# Altium footprint library HZ ChMic4501_1013.PcbLib: 52 footprints (part 3 of 4)
Each footprint in its own frame and in the unit in brackets; x right, y up, seen from the top. Pads: shape width x height; smd on the part's side, far side on the other; paste and mask are expansions set on the pad; w line width, h text height; cw(c..) or ccw(c..) is an arc to the next point about the centre after c.
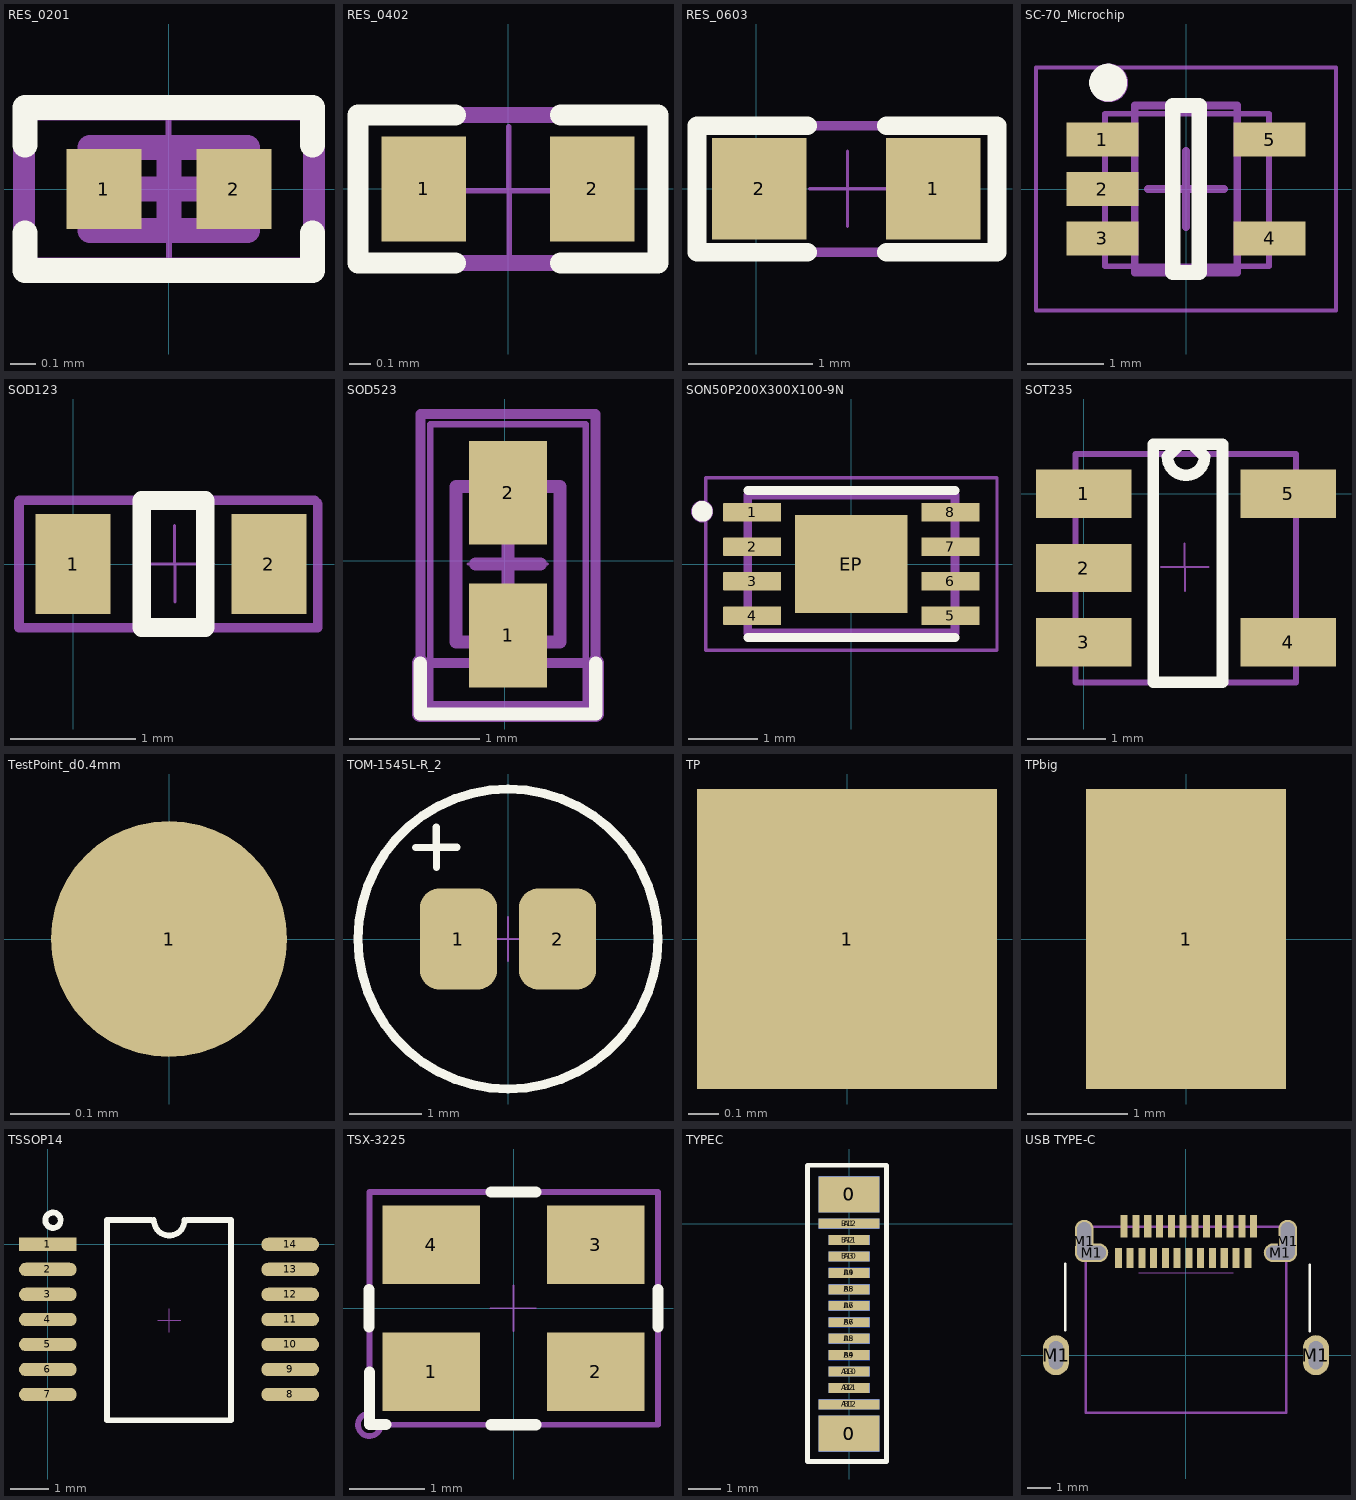
[diagram p2: the footprints below, top view; thin cyan lines are the x and y axes]

## RES_0201 [mm] "Chip Resistor, 2-Leads, Body 0.60x0.30mm, IPC High Density"
height 0.33
pads (2):
  rect 0.3x0.32 smd: 1(-0.26,0) 2(0.26,0)
Top Overlay:
  lines w0.1: -0.575,-0.175 -0.575,-0.325 0.575,-0.325 0.575,-0.175 ; -0.575,0.175 -0.575,0.325 0.575,0.325 0.575,0.175
Mechanical 7:
  lines w0.025: -0.307,0 -0.002,0 ; -0.002,0.305 -0.002,0 ; 0,-0.303 0,0.002 ; 0.303,0 -0.002,0
Mechanical 13:
  lines w0.1: -0.315,-0.165 0.315,-0.165 0.315,0.165 -0.315,0.165 -0.315,-0.165
Mechanical 15:
  lines w0.05: -0.6,-0.3 0.6,-0.3 0.6,0.3 -0.6,0.3 -0.6,-0.3
  lines w0.1: -0.165,0 0.165,0 ; 0,-0.165 0,0.165
Top Mechanical 20/Mechanical 21 (Mech20):
  lines w0.076: -0.575,-0.325 -0.575,0.325 0.575,0.325 0.575,-0.325 -0.575,-0.325
3D body "CAP 0201.STEP": height 0.3, standoff 0, extent -0.3,-0.15 0.3,0.15

## RES_0402 [mm]
pads (2):
  rect 0.4x0.5 smd: 1(-0.4,0) 2(0.4,0)
Top Overlay:
  lines w0.1: -0.25,-0.35 -0.711,-0.35 -0.711,0.35 -0.25,0.35 ; 0.25,-0.35 0.711,-0.35 0.711,0.35 0.25,0.35
Mechanical 7:
  lines w0.025: -0.302,-0.009 0.003,-0.009 ; 0.003,0.296 0.003,-0.009 ; 0.005,-0.312 0.005,-0.007 ; 0.308,-0.009 0.003,-0.009
Top Mechanical 20/Mechanical 21 (Mech20):
  lines w0.076: -0.711,-0.35 -0.711,0.35 0.711,0.35 0.711,-0.35 -0.711,-0.35
3D body "82307050029.stp": height 0.52, standoff 0.02, extent -0.495,-0.259 0.505,0.241

## RES_0603 [mil]
pads (2):
  rect 30x32 smd: 1(56.1,0) 2(0.98,0)
Top Overlay:
  lines w5.91: 16.29,-20.08 -18.71,-20.08 -18.71,19.92 16.29,19.92 ; 41.29,-20.08 76.29,-20.08 76.29,19.92 41.29,19.92
Mechanical 7:
  lines w1: 16.91,0 28.91,0 ; 28.91,12 28.91,0 ; 29,-11.93 29,0.07 ; 40.91,0 28.91,0
Top Mechanical 20/Mechanical 21 (Mech20):
  lines w1: -18.71,19.92 -18.71,19.92 ; 76.29,19.92 76.29,19.92
  lines w3: -18.71,-20.08 16.29,-20.08 41.29,-20.08 76.29,-20.08 76.29,19.92 41.29,19.92 16.29,19.92 -18.71,19.92 -18.71,-20.08
3D body "Ceramic_Capacitor_0603_h32mil.step": height 31.89, standoff 0.39, extent -2.49,-15.62 60.5,15.88

## SC-70_Microchip [mm] "SOT23, 5-Leads, Body 2.2x1.35mm, Pitch 0.65mm, IPC Low Density"
height 1.1
pads (5):
  rect 0.95x0.45 smd: 1(-1.1,0.65) 2(-1.1,0) 3(-1.1,-0.65) 4(1.1,-0.65) 5(1.1,0.65)
Top Overlay:
  circle w0.25: c-1.025,1.4 r0.125
  lines w0.2: -0.175,-1.1 -0.175,1.1 0.175,1.1 0.175,-1.1 -0.175,-1.1
Mechanical 13:
  lines w0.1: -0.675,-1.1 0.675,-1.1 0.675,1.1 -0.675,1.1 -0.675,-1.1
Mechanical 15:
  lines w0.05: -1.975,-1.6 1.975,-1.6 1.975,1.6 -1.975,1.6 -1.975,-1.6
  lines w0.1: -0.5,0 0.5,0 ; 0,-0.5 0,0.5
Top Mechanical 20/Mechanical 21 (Mech20):
  circle w0.254: c-1.016,1.397 r0.127
  lines w0.076: -1.067,-1.016 -1.067,0.991 1.092,0.991 1.092,-1.016 -1.067,-1.016
3D body "SC70-5.step": height 1.15, standoff -0.05, extent -1.072,-1 1.083,1

## SOD123 [mm]
height 1.542
pads (2):
  rect 0.6x0.8 smd: 1(0,0) 2(1.564,0)
Top Overlay:
  lines w0.15: 1.056,0 1.056,0.508 ; 1.056,0.508 0.548,0.508 0.548,-0.508 1.056,-0.508 1.056,-0.133 1.056,0.508
Mechanical 7:
  lines w0.025: 0.506,0 0.811,0 ; 0.811,0.305 0.811,0 ; 0.813,-0.303 0.813,0.002 ; 1.115,0 0.811,0
Top Mechanical 20/Mechanical 21 (Mech20):
  lines w0.076: -0.432,0.5 -0.432,-0.508 0.548,-0.508 1.956,-0.508 1.956,0.483 1.93,0.508 0.548,0.508 -0.43,0.508

## SOD523 [mm]
pads (2):
  rect 0.6x0.8 smd: 1(0.025,-0.575) 2(0.025,0.525)
Top Overlay:
  lines w0.102: -0.651,-0.787 -0.651,-1.182 0.702,-1.182 0.702,-0.787
Mechanical 7:
  lines w0.025: -0.282,-0.025 0.023,-0.025 ; 0.023,0.279 0.023,-0.025 ; 0.025,-0.328 0.025,-0.024 ; 0.328,-0.025 0.023,-0.025
Mechanical 13:
  lines w0.1: -0.375,-0.625 -0.375,0.575 0.425,0.575 0.425,-0.625 -0.375,-0.625
Mechanical 15:
  lines w0.05: -0.575,-1.105 -0.575,1.055 0.625,1.055 0.625,-1.105 -0.575,-1.105
  lines w0.1: -0.225,-0.025 0.275,-0.025 ; 0.025,-0.275 0.025,0.225
Top Mechanical 20/Mechanical 21 (Mech20):
  lines w0.076: -0.651,-1.182 -0.651,1.132 0.702,1.132 0.702,-0.787 -0.651,-0.787
  lines w0.127: -0.651,-0.787 -0.651,-1.182 0.702,-1.182 0.702,-0.787
3D body: height 0.71, standoff 0.01, extent -0.375,-0.625 0.425,0.575

## SON50P200X300X100-9N [mm]
pads (9):
  rrect7% 0.84x0.27 smd: 1(-1.435,0.75) 2(-1.435,0.25) 3(-1.435,-0.25) 4(-1.435,-0.75) 5(1.435,-0.75) 6(1.435,-0.25) 7(1.435,0.25) 8(1.435,0.75)
  rect 1.625x1.425 smd paste-2: EP(0,0)
Top Overlay:
  circle w0.15: c-2.159,0.762 r0.075
  lines w0.127: -1.5,-1.065 1.5,-1.065 ; -1.5,1.065 1.5,1.065
Top Paste:
  region: 0.51,-0.451 -0.511,-0.451 -0.511,0.45 0.51,0.45
Mechanical 13:
  lines w0.127: -1.5,-1 1.5,-1 1.5,1 -1.5,1 -1.5,-1
Mechanical 15:
  lines w0.05: -2.11,-1.25 2.11,-1.25 2.11,1.25 -2.11,1.25 -2.11,-1.25
Top Mechanical 20/Mechanical 21 (Mech20):
  circle w0.254: c-2.159,0.762 r0.032
  lines w0.076: -1.5,-1.065 -1.5,1.065 1.5,1.065 1.5,-1.065 -1.5,-1.065
3D body "MCP6002T-E_MC.stp": height 1, standoff 0, extent -1.55,-1 1.55,1

## SOT235 [mm]
pads (5):
  rect 1.22x0.62 smd: 1(0,0) 2(0,-0.95) 3(0,-1.9) 4(2.62,-1.9) 5(2.62,0)
Top Overlay:
  lines w0.15: 0.889,-2.413 1.778,-2.413 1.778,0.635 1.232,0.635 1.072,0.475 ccw(c1.31,0.475) 1.548,0.475 1.388,0.635 0.889,0.635 0.889,-2.413
Mechanical 7:
  lines w0.025: 0.988,-0.94 1.293,-0.94 ; 1.293,-0.635 1.293,-0.94 ; 1.295,-1.243 1.295,-0.938 ; 1.598,-0.94 1.293,-0.94
Top Mechanical 20/Mechanical 21 (Mech20):
  lines w0.076: -0.102,-2.413 2.718,-2.413 2.718,0.508 -0.102,0.508 -0.102,-2.413
3D body "TP4054-42-SOT25-R.stp": height 1, standoff 0, extent -0.093,-2.405 2.707,0.495

## TestPoint_d0.4mm [mm]
pads (1):
  round 0.4 smd: 1(0,0)

## TOM-1545L-R_2 [mil]
pads (2):
  rrect50% 42x55.12 smd: 1(-27,0) 2(27,0)
Top Overlay:
  circle w5: c0,0 r81.74
  lines w4: -50.2,49.87 -39.2,49.87 ; -39.13,49.87 -39.13,60.87 ; -39,39 -39,50 -28,50
Mechanical 7:
  lines w1: -12.09,0 -0.09,0 ; -0.09,12 -0.09,0 ; 0,-11.93 0,0.07 ; 11.91,0 -0.09,0
3D body "_media_ThreeDModel_TOM-1545L-R.stp": height 67.42, standoff -1.09, extent -78.74,-78.74 78.74,78.74

## TP [mm]
pads (1):
  rect 1x1 smd: 1(0,0)

## TPbig [mm]
pads (1):
  rect 2x3 smd: 1(0,0)

## TSSOP14 [mm]
pads (14):
  rect 1.5x0.35 smd: 1(0,0)
  oval 1.5x0.35 smd: 2(0,-0.65) 3(0,-1.3) 4(0,-1.95) 5(0,-2.6) 6(0,-3.25) 7(0,-3.9) 8(6.3,-3.9) 9(6.3,-3.25) 10(6.3,-2.6) 11(6.3,-1.95) 12(6.3,-1.3) 13(6.3,-0.65) 14(6.3,0)
Top Overlay:
  lines w0.15: 0.325,0.567 cw(c0.135,0.63) 0.335,0.63 ; 2.678,0.635 1.535,0.635 1.535,-4.572 4.765,-4.572 4.765,0.635 3.622,0.635 ; 2.756,0.635 ccw(c3.156,0.635) 3.556,0.635
Mechanical 7:
  lines w0.025: 2.851,-1.974 3.156,-1.974 ; 3.156,-1.669 3.156,-1.974 ; 3.158,-2.277 3.158,-1.972 ; 3.461,-1.974 3.156,-1.974

## TSX-3225 [mm]
height 0.65
pads (4):
  rect 1.3x1.05 smd: 1(-1.1,-0.85) 2(1.1,-0.85) 3(1.1,0.85) 4(-1.1,0.85)
Top Overlay:
  lines w0.15: -1.93,-0.25 -1.93,0.25 ; -1.925,-1.552 -1.925,-0.852 ; -1.904,-1.552 -1.704,-1.552 ; -0.3,-1.555 0.3,-1.555 ; -0.3,1.555 0.3,1.555 ; 1.93,-0.25 1.93,0.25
Mechanical 7:
  lines w0.025: -0.307,0 -0.002,0 ; -0.002,0.305 -0.002,0 ; 0,-0.303 0,0.002 ; 0.303,0 -0.002,0
Top Mechanical 20/Mechanical 21 (Mech20):
  lines w0.076: -1.93,-0.25 -1.921,-0.259 ; -1.926,-1.402 ccw(c-1.926,-1.555) -1.774,-1.555 ; -1.925,-1.552 -1.925,1.555 1.93,1.555 1.93,-0.25 1.93,-1.555 -0.3,-1.555 -1.901,-1.555 -1.904,-1.552
3D body "User Library-tsx-3225.sldprt": height 0.6, standoff 0, extent -1.6,-1.245 1.6,1.255

## TYPEC [mm]
pads (28):
  rect 1.85x1.1 smd: 0(0,-6.39) 0(0,0.89)
  rect 1.85x1.1 smd far side: 0(0,-6.39) 0(0,0.89)
  rect 1.85x0.3 smd: A1(0,0) A12(0,-5.5)
  rect 1.25x0.3 smd: A2(0,-0.5) A3(0,-1) A4(0,-1.5) A5(0,-2) A6(0,-2.5) A7(0,-3) A8(0,-3.5) A9(0,-4) A10(0,-4.5) A11(0,-5)
  rect 1.85x0.3 smd far side: B1(0,-5.5) B12(0,0)
  rect 1.25x0.3 smd far side: B2(0,-5) B3(0,-4.5) B4(0,-4) B5(0,-3.5) B6(0,-3) B7(0,-2.5) B8(0,-2) B9(0,-1.5) B10(0,-1) B11(0,-0.5)
Top Overlay:
  lines w0.15: -1.27,-7.239 -1.27,1.778 1.143,1.778 1.143,-7.239 -1.27,-7.239
Bottom Overlay:
  lines w0.15: -1.27,-7.239 1.143,-7.239 1.143,1.778 -1.27,1.778 -1.27,-7.239
3D body "CX60-24S-UNIT_4800465000_3D_step.stp": height 0.85, standoff -1.66, extent -0.343,-6.858 10.757,1.392

## USB TYPE-C [mm]
height 3.16
pads (30):
  rect 0.3x0.95 smd: A1(-2.625,5.475) A2(-2.125,5.475) A3(-1.625,5.475) A4(-1.125,5.475) A5(-0.625,5.475) A6(-0.125,5.475) A7(0.375,5.475) A8(0.875,5.475) A9(1.375,5.475) A10(1.875,5.475) A11(2.375,5.475) A12(2.875,5.475)
  rect 0.3x0.85 smd: B1(2.625,4.125) B2(2.125,4.125) B3(1.625,4.125) B4(1.125,4.125) B5(0.625,4.125) B6(0.125,4.125) B7(-0.375,4.125) B8(-0.875,4.125) B9(-1.375,4.125) B10(-1.875,4.125) B11(-2.375,4.125) B12(-2.875,4.125)
  oval 1.1x1.7 hole 0.6 slot 1.2 at 90 deg: M1(-5.52,0) M1(5.52,0)
  oval 0.8x1.8 / inner oval 1.1x2.1 / far side oval 1.1x2.1 hole 0.6 slot 1.6 at 90 deg mask+0.08: M1(-4.32,4.85) M1(4.32,4.85)
  oval 1.4x0.8 / inner oval 1.7x1.1 / far side oval 1.7x1.1 hole 0.6 slot 1.2 at 0 deg mask+0.08: M1(-4,4.35) M1(4,4.35)
Top Overlay:
  lines w0.1: -5.125,1.05 -5.125,3.89 ; 5.25,1.015 5.25,3.855
Top Mechanical 20/Mechanical 21:
  lines w0.051: -2,3.5 2,3.5
Bottom Mechanical 20/Mechanical 21:
  lines w0.1: -4.47,5.45 4.47,5.45 ; -4.25,5.5 -4.25,-2.45 4.25,-2.45 4.25,5.5
3D body "USB type C 2.STEP": height 2.5, standoff -1.1, extent -5.62,-2.595 5.62,5.5